# EAGLE library part PCF8583 (library i2c_epccs)
Clock/calendar with 240 x 8-bit RAM
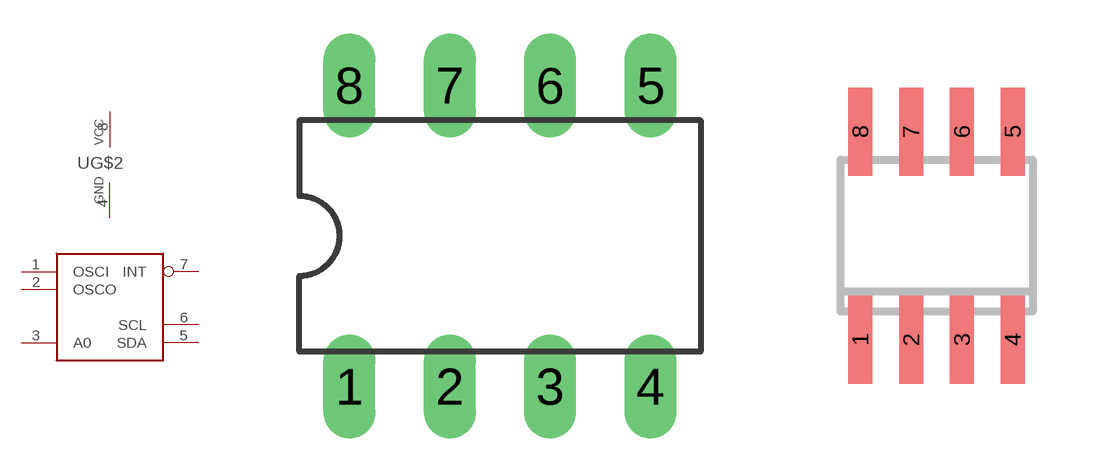
[diagram p13: symbol with the pads of DIL08; footprints DIL08, SO08]

Designator prefix -; gates G$1=PCF8583 G$2=PWRN

## PCF8583P  [DIL08]
1  G$1:OSCI  in
2  G$1:OSCO  out
3  G$1:A0  in
4  G$2:GND  pwr
5  G$1:SDA
6  G$1:SCL  in
7  G$1:INT  out
8  G$2:VCC  pwr

## PCF8583T  [SO08]
Pads as for DIL08

## Footprint DIL08 (pad centres in mm)
drill 0.813 long: 1 -3.81,-3.81; 2 -1.27,-3.81; 3 1.27,-3.81; 4 3.81,-3.81; 5 3.81,3.81; 6 1.27,3.81; 7 -1.27,3.81; 8 -3.81,3.81

## Footprint SO08 (pad centres in mm)
smd 0.6 x 2.2: 1 -1.905,-2.6; 2 -0.635,-2.6; 3 0.635,-2.6; 4 1.905,-2.6; 5 1.905,2.6; 6 0.635,2.6; 7 -0.635,2.6; 8 -1.905,2.6